# Altium footprint library Main.PcbLib: 62 footprints (part 1 of 4)
Each footprint in its own frame and in the unit in brackets; x right, y up, seen from the top. Pads: shape width x height; smd on the part's side, far side on the other; paste and mask are expansions set on the pad; w line width, h text height; cw(c..) or ccw(c..) is an arc to the next point about the centre after c.
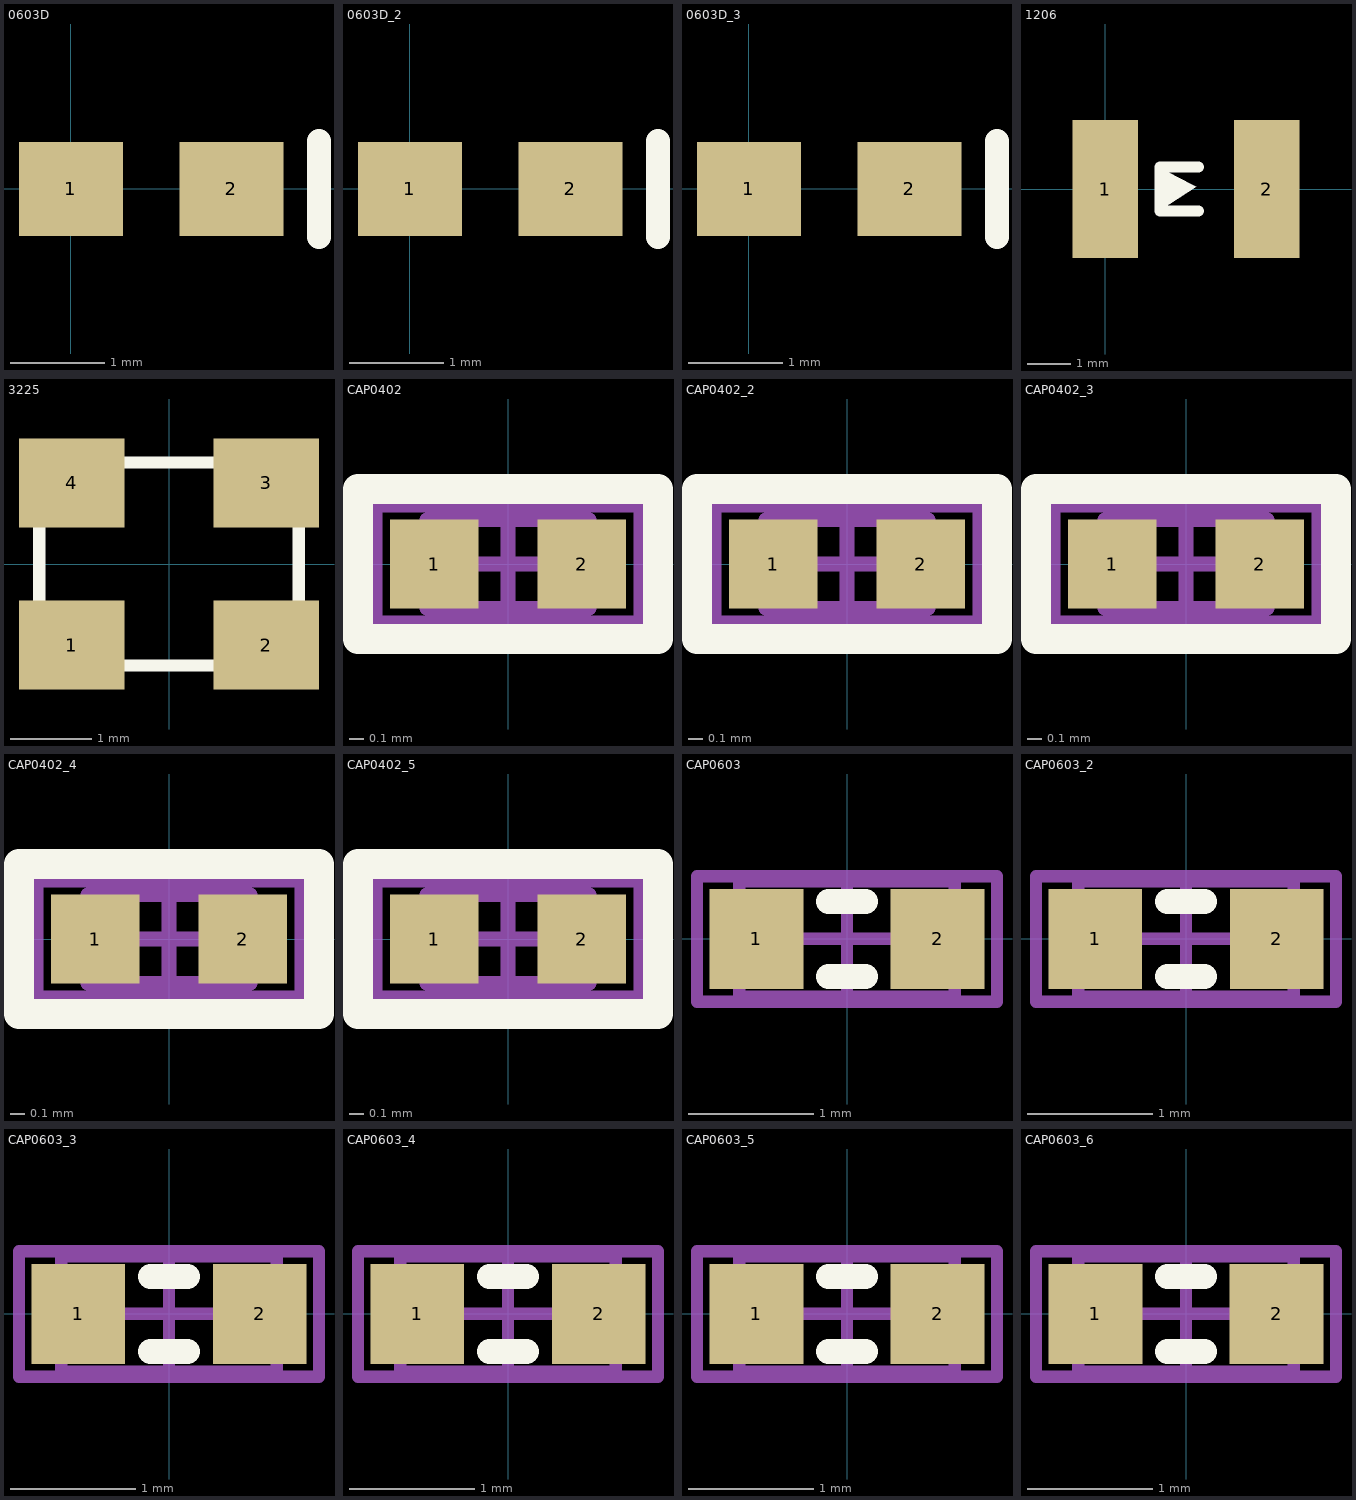
[diagram p0: the footprints below, top view; thin cyan lines are the x and y axes]

## 0603D [mm]
pads (2):
  rect 1.1x1 smd: 1(0,0) 2(1.7,0)
Top Overlay:
  lines w0.254: 2.628,-0.508 2.628,0.508
3D body: height 0.76, standoff 0, extent -0.635,-0.584 2.337,0.584

## 0603D_2 [mm]
pads (2):
  rect 1.1x1 smd: 1(0,0) 2(1.7,0)
Top Overlay:
  lines w0.254: 2.628,-0.508 2.628,0.508
3D body: height 0.76, standoff 0, extent -0.635,-0.584 2.337,0.584

## 0603D_3 [mm]
pads (2):
  rect 1.1x1 smd: 1(0,0) 2(1.7,0)
Top Overlay:
  lines w0.254: 2.628,-0.508 2.628,0.508
3D body: height 0.76, standoff 0, extent -0.635,-0.584 2.337,0.584

## 1206 [mil]
pads (2):
  rect 60x125.98 smd: 1(0,0) 2(147,0)
Top Overlay:
  region: 49,20 65,11 83,2 49,-20
  lines w10: 85,-20 50,-20 50,20 85,20
3D body: height 52, standoff 0, extent 157,-34 168,34
3D body: height 52, standoff 0, extent -34,-34 -23,34
3D body: height 50, standoff 0, extent -23,-34 157,34

## 3225 [mm]
pads (4):
  rect 1.3x1.1 smd: 1(-1.2,-1) 2(1.2,-1) 3(1.2,1) 4(-1.2,1)
Top Overlay:
  lines w0.15: -1.6,-1.25 -1.6,1.25 1.6,1.25 1.6,-1.25 -1.6,-1.25

## CAP0402 [mm]
pads (2):
  rect 0.6x0.6 smd: 1(-0.5,0) 2(0.5,0)
Top Overlay:
  lines w0.2: -1.016,-0.508 1.016,-0.508 1.016,0.508 -1.016,0.508 -1.016,-0.508
Mechanical 13:
  lines w0.1: -0.55,-0.3 0.55,-0.3 0.55,0.3 -0.55,0.3 -0.55,-0.3
Mechanical 15:
  lines w0.1: -0.3,0 0.3,0 ; 0,-0.3 0,0.3 ; -0.9,-0.4 0.9,-0.4 0.9,0.4 -0.9,0.4 -0.9,-0.4
3D body: height 0.6, standoff 0, extent -0.55,-0.3 0.55,0.3

## CAP0402_2 [mm]
pads (2):
  rect 0.6x0.6 smd: 1(-0.5,0) 2(0.5,0)
Top Overlay:
  lines w0.2: -1.016,-0.508 -1.016,0.508 1.016,0.508 1.016,-0.508 -1.016,-0.508
Mechanical 13:
  lines w0.1: -0.55,-0.3 -0.55,0.3 0.55,0.3 0.55,-0.3 -0.55,-0.3
Mechanical 15:
  lines w0.1: -0.3,0 0.3,0 ; 0,-0.3 0,0.3 ; -0.9,-0.4 -0.9,0.4 0.9,0.4 0.9,-0.4 -0.9,-0.4
3D body: height 0.6, standoff 0, extent -0.55,-0.3 0.55,0.3

## CAP0402_3 [mm]
pads (2):
  rect 0.6x0.6 smd: 1(-0.5,0) 2(0.5,0)
Top Overlay:
  lines w0.2: -1.016,-0.508 1.016,-0.508 1.016,0.508 -1.016,0.508 -1.016,-0.508
Mechanical 13:
  lines w0.1: -0.55,-0.3 0.55,-0.3 0.55,0.3 -0.55,0.3 -0.55,-0.3
Mechanical 15:
  lines w0.1: -0.3,0 0.3,0 ; 0,-0.3 0,0.3 ; -0.9,-0.4 0.9,-0.4 0.9,0.4 -0.9,0.4 -0.9,-0.4
3D body: height 0.6, standoff 0, extent -0.55,-0.3 0.55,0.3

## CAP0402_4 [mm]
pads (2):
  rect 0.6x0.6 smd: 1(-0.5,0) 2(0.5,0)
Top Overlay:
  lines w0.2: -1.016,-0.508 1.016,-0.508 1.016,0.508 -1.016,0.508 -1.016,-0.508
Mechanical 13:
  lines w0.1: -0.55,-0.3 0.55,-0.3 0.55,0.3 -0.55,0.3 -0.55,-0.3
Mechanical 15:
  lines w0.1: -0.3,0 0.3,0 ; 0,-0.3 0,0.3 ; -0.9,-0.4 0.9,-0.4 0.9,0.4 -0.9,0.4 -0.9,-0.4
3D body: height 0.6, standoff 0, extent -0.55,-0.3 0.55,0.3

## CAP0402_5 [mm]
pads (2):
  rect 0.6x0.6 smd: 1(-0.5,0) 2(0.5,0)
Top Overlay:
  lines w0.2: -1.016,-0.508 1.016,-0.508 1.016,0.508 -1.016,0.508 -1.016,-0.508
Mechanical 13:
  lines w0.1: -0.55,-0.3 0.55,-0.3 0.55,0.3 -0.55,0.3 -0.55,-0.3
Mechanical 15:
  lines w0.1: -0.3,0 0.3,0 ; 0,-0.3 0,0.3 ; -0.9,-0.4 0.9,-0.4 0.9,0.4 -0.9,0.4 -0.9,-0.4
3D body: height 0.6, standoff 0, extent -0.55,-0.3 0.55,0.3

## CAP0603 [mm]
pads (2):
  rect 0.75x0.8 smd: 1(-0.725,0) 2(0.725,0)
Top Overlay:
  lines w0.2: -0.15,-0.3 0.15,-0.3 ; -0.15,0.3 0.15,0.3
Mechanical 13:
  lines w0.1: -0.86,-0.46 0.86,-0.46 0.86,0.46 -0.86,0.46 -0.86,-0.46
Mechanical 15:
  lines w0.1: -0.46,0 0.46,0 ; 0,-0.46 0,0.46 ; -1.2,-0.5 1.2,-0.5 1.2,0.5 -1.2,0.5 -1.2,-0.5
3D body: height 0.92, standoff 0, extent -0.86,-0.46 0.86,0.46

## CAP0603_2 [mm]
pads (2):
  rect 0.75x0.8 smd: 1(-0.725,0) 2(0.725,0)
Top Overlay:
  lines w0.2: -0.15,-0.3 0.15,-0.3 ; -0.15,0.3 0.15,0.3
Mechanical 13:
  lines w0.1: -0.86,-0.46 0.86,-0.46 0.86,0.46 -0.86,0.46 -0.86,-0.46
Mechanical 15:
  lines w0.1: -0.46,0 0.46,0 ; 0,-0.46 0,0.46 ; -1.2,-0.5 1.2,-0.5 1.2,0.5 -1.2,0.5 -1.2,-0.5
3D body: height 0.92, standoff 0, extent -0.86,-0.46 0.86,0.46

## CAP0603_3 [mm]
pads (2):
  rect 0.75x0.8 smd: 1(-0.725,0) 2(0.725,0)
Top Overlay:
  lines w0.2: -0.15,-0.3 0.15,-0.3 ; -0.15,0.3 0.15,0.3
Mechanical 13:
  lines w0.1: -0.86,-0.46 -0.86,0.46 0.86,0.46 0.86,-0.46 -0.86,-0.46
Mechanical 15:
  lines w0.1: -0.46,0 0.46,0 ; 0,-0.46 0,0.46 ; -1.2,-0.5 -1.2,0.5 1.2,0.5 1.2,-0.5 -1.2,-0.5
3D body: height 0.92, standoff 0, extent -0.86,-0.46 0.86,0.46

## CAP0603_4 [mm]
pads (2):
  rect 0.75x0.8 smd: 1(-0.725,0) 2(0.725,0)
Top Overlay:
  lines w0.2: -0.15,-0.3 0.15,-0.3 ; -0.15,0.3 0.15,0.3
Mechanical 13:
  lines w0.1: -0.86,-0.46 -0.86,0.46 0.86,0.46 0.86,-0.46 -0.86,-0.46
Mechanical 15:
  lines w0.1: -0.46,0 0.46,0 ; 0,-0.46 0,0.46 ; -1.2,-0.5 -1.2,0.5 1.2,0.5 1.2,-0.5 -1.2,-0.5
3D body: height 0.92, standoff 0, extent -0.86,-0.46 0.86,0.46

## CAP0603_5 [mm]
pads (2):
  rect 0.75x0.8 smd: 1(-0.725,0) 2(0.725,0)
Top Overlay:
  lines w0.2: -0.15,-0.3 0.15,-0.3 ; -0.15,0.3 0.15,0.3
Mechanical 13:
  lines w0.1: -0.86,-0.46 -0.86,0.46 0.86,0.46 0.86,-0.46 -0.86,-0.46
Mechanical 15:
  lines w0.1: -0.46,0 0.46,0 ; 0,-0.46 0,0.46 ; -1.2,-0.5 -1.2,0.5 1.2,0.5 1.2,-0.5 -1.2,-0.5
3D body: height 0.92, standoff 0, extent -0.86,-0.46 0.86,0.46

## CAP0603_6 [mm]
pads (2):
  rect 0.75x0.8 smd: 1(-0.725,0) 2(0.725,0)
Top Overlay:
  lines w0.2: -0.15,-0.3 0.15,-0.3 ; -0.15,0.3 0.15,0.3
Mechanical 13:
  lines w0.1: -0.86,-0.46 -0.86,0.46 0.86,0.46 0.86,-0.46 -0.86,-0.46
Mechanical 15:
  lines w0.1: -0.46,0 0.46,0 ; 0,-0.46 0,0.46 ; -1.2,-0.5 -1.2,0.5 1.2,0.5 1.2,-0.5 -1.2,-0.5
3D body: height 0.92, standoff 0, extent -0.86,-0.46 0.86,0.46